# EAGLE library part VS1053B (library microbuilder)
VS1053b Audio Codec - Ogg Vorbis/MP3/AAC/WMA/FLAC/MIDI
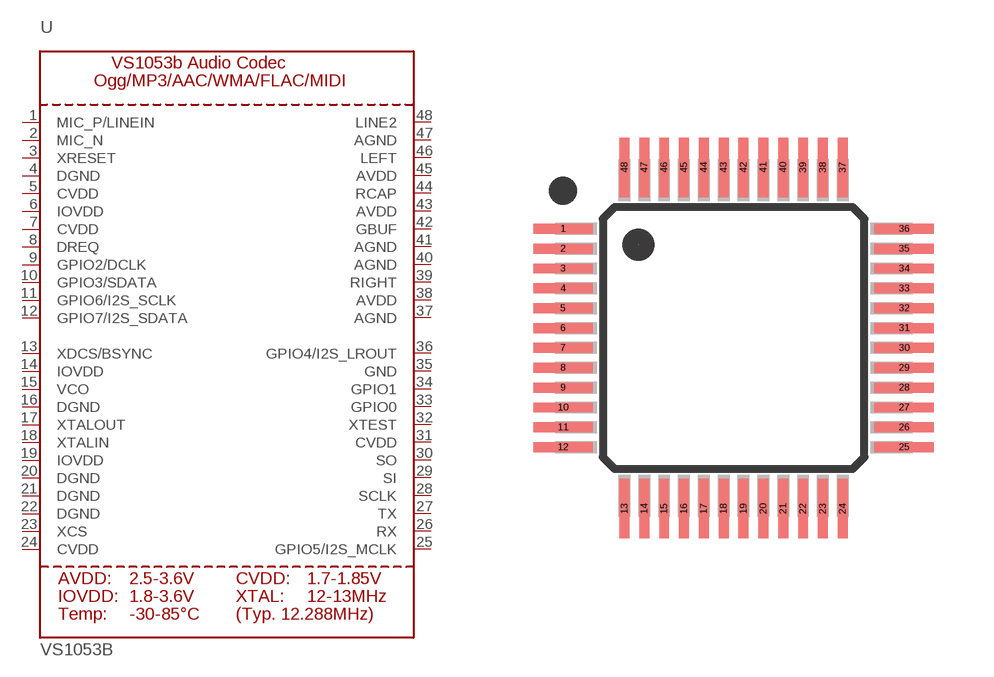
[diagram p206: symbol with the pads of LQFP48; footprint LQFP48]

Designator prefix U

## VS1053B  [LQFP48]
1  MIC_P/LINEIN
2  MIC_N
3  XRESET
4  DGND  sup
5  CVDD  sup
6  IOVDD  sup
7  CVDD  sup
8  DREQ
9  GPIO2/DCLK
10  GPIO3/SDATA
11  GPIO6/I2S_SCLK
12  GPIO7/I2S_SDATA
13  XDCS/BSYNC
14  IOVDD  sup
15  VCO
16  DGND  sup
17  XTALOUT  out
18  XTALIN  in
19  IOVDD  sup
20  DGND  sup
21  DGND  sup
22  DGND  sup
23  XCS
24  CVDD  sup
25  GPIO5/I2S_MCLK
26  RX
27  TX
28  SCLK
29  SI
30  SO
31  CVDD  sup
32  XTEST
33  GPIO0
34  GPIO1
35  GND  sup
36  GPIO4/I2S_LROUT
37  AGND  sup
38  AVDD  sup
39  RIGHT
40  AGND  sup
41  AGND  sup
42  GBUF
43  AVDD  sup
44  RCAP
45  AVDD  sup
46  LEFT
47  AGND  sup
48  LINE2

## Footprint LQFP48 (pad centres in mm)
smd 1.5 x 0.25: 1 -4.3,2.75; 2 -4.3,2.25; 3 -4.3,1.75; 4 -4.3,1.25; 5 -4.3,0.75; 6 -4.3,0.25; 7 -4.3,-0.25; 8 -4.3,-0.75; 9 -4.3,-1.25; 10 -4.3,-1.75; 11 -4.3,-2.25; 12 -4.3,-2.75; 25 4.3,-2.75; 26 4.3,-2.25; 27 4.3,-1.75; 28 4.3,-1.25; 29 4.3,-0.75; 30 4.3,-0.25; 31 4.3,0.25; 32 4.3,0.75; 33 4.3,1.25; 34 4.3,1.75; 35 4.3,2.25; 36 4.3,2.75
smd 0.25 x 1.5: 13 -2.75,-4.3; 14 -2.25,-4.3; 15 -1.75,-4.3; 16 -1.25,-4.3; 17 -0.75,-4.3; 18 -0.25,-4.3; 19 0.25,-4.3; 20 0.75,-4.3; 21 1.25,-4.3; 22 1.75,-4.3; 23 2.25,-4.3; 24 2.75,-4.3; 37 2.75,4.3; 38 2.25,4.3; 39 1.75,4.3; 40 1.25,4.3; 41 0.75,4.3; 42 0.25,4.3; 43 -0.25,4.3; 44 -0.75,4.3; 45 -1.25,4.3; 46 -1.75,4.3; 47 -2.25,4.3; 48 -2.75,4.3